# Altium schematic symbol library Mech-PCB.SchLib: 54 symbols
Pins are listed as number, name and electrical type; pins without a type are passive.

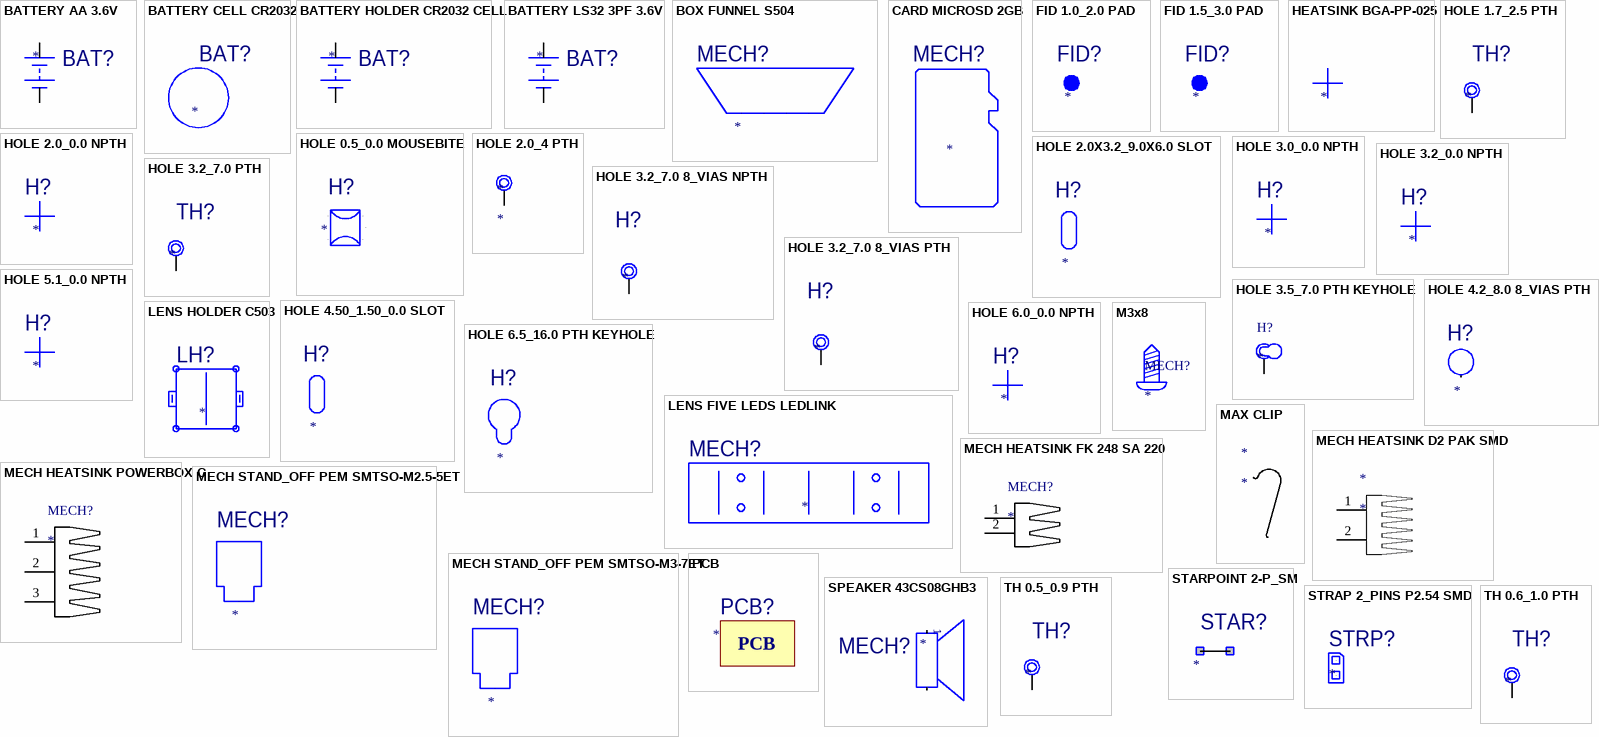
[diagram p0: symbols BATTERY AA 3.6V to TH 0.6_1.0 PTH]

## BATTERY AA 3.6V
designator BAT?
=Description
pins: 1, 2

## BATTERY CELL CR2032
designator BAT?
=Description

## BATTERY HOLDER CR2032 CELL
designator BAT?
=Description
pins: 1, 2

## BATTERY LS32 3PF 3.6V
designator BAT?
=Description
pins: 1, 2

## BOX FUNNEL S504
designator MECH?
=Description
pins: 1, 2, 3, 4

## CARD MICROSD 2GB
designator MECH?
=Description

## FID 1.0_2.0 PAD
designator FID?  (no BOM)
=Description

## FID 1.5_3.0 PAD
designator FID?  (no BOM)
=Description

## HEATSINK BGA-PP-025
designator ?
=Description

## HOLE 0.5_0.0 MOUSEBITE
designator H?
=Description
pins: 1, 2, 3, 4, 5, 6

## HOLE 1.7_2.5 PTH
designator TH?
=Description
pins: 1

## HOLE 2.0_0.0 NPTH
designator H?
=Description

## HOLE 2.0_4 PTH
designator *
pins: 1

## HOLE 2.0X3.2_9.0X6.0 SLOT
designator H?
=Description
pins: 1

## HOLE 3.0_0.0 NPTH
designator H?
=Description

## HOLE 3.2_0.0 NPTH
designator H?
=Description

## HOLE 3.2_7.0 8_VIAS NPTH
designator H?  (no BOM)
=Description
pins: 1

## HOLE 3.2_7.0 8_VIAS PTH
designator H?  (no BOM)
=Description
pins: 1

## HOLE 3.2_7.0 PTH
designator TH?  (no BOM)
=Description
pins: 1

## HOLE 3.5_7.0 PTH KEYHOLE
designator H?  (no BOM)
=Designator
pins: 1

## HOLE 4.2_8.0 8_VIAS PTH
designator H?
=Description
pins: 1

## HOLE 4.50_1.50_0.0 SLOT
designator H?
=Description
pins: 1

## HOLE 5.1_0.0 NPTH
designator H?
=Description

## HOLE 6.0_0.0 NPTH
designator H?
=Description

## HOLE 6.5_16.0 PTH KEYHOLE
designator H?
=Description
pins: 1, 2

## LENS FIVE LEDS LEDLINK
designator MECH?
=Description

## LENS HOLDER C503
designator LH?
=Description
pins: 1, 2

## M3x8
designator MECH?
=Description

## MAX CLIP
designator *
=Description

## MECH HEATSINK D2 PAK SMD
designator *
=Description
pins: 1, 2

## MECH HEATSINK FK 248 SA 220
designator MECH?
=Description
pins: 1, 2

## MECH HEATSINK POWERBOX C
designator MECH?
=Description
pins: 1, 2, 3

## MECH STAND_OFF PEM SMTSO-M2.5-5ET
designator MECH?
=Description
pins: 1

## MECH STAND_OFF PEM SMTSO-M3-7ET
designator MECH?
=Description
pins: 1

## PCB
designator PCB?  (mechanical)
=Description

## SPEAKER 43CS08GHB3
designator MECH?
=Description
pins: 1, 2

## STARPOINT 2-P_SM
designator STAR?
=Description
pins: 1, 2

## STRAP 2_PINS P2.54 SMD
designator STRP?
=Description
pins: 1, 2

## TH 0.5_0.9 PTH
designator TH?  (no BOM)
=Description
pins: 1

## TH 0.6_1.0 PTH
designator TH?  (no BOM)
=Description
pins: 1

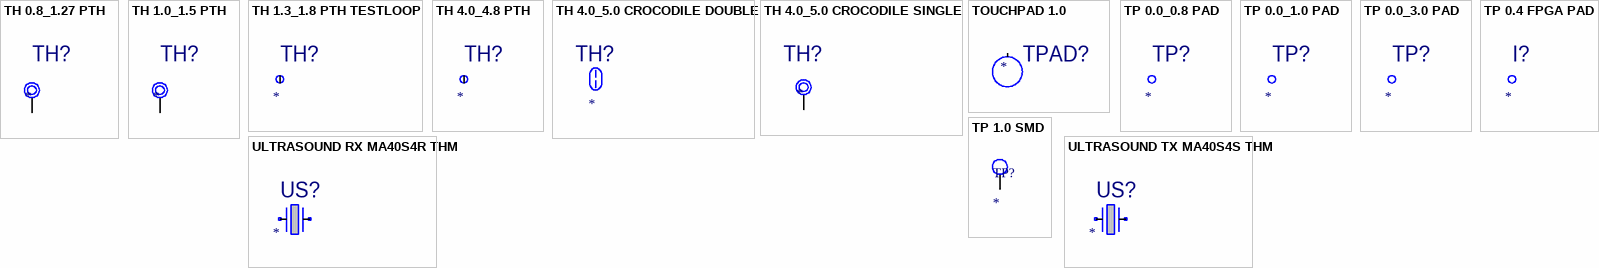
[diagram p1: symbols TH 0.8_1.27 PTH to ULTRASOUND TX MA40S4S THM]

## TH 0.8_1.27 PTH
designator TH?  (no BOM)
=Description
pins: 1

## TH 1.0_1.5 PTH
designator TH?  (no BOM)
=Description
pins: 1

## TH 1.3_1.8 PTH TESTLOOP
designator TH?
=Description
pins: 1

## TH 4.0_4.8 PTH
designator TH?
=Description
pins: 1

## TH 4.0_5.0 CROCODILE DOUBLE
designator TH?
=Description
pins: 1

## TH 4.0_5.0 CROCODILE SINGLE
designator TH?  (no BOM)
=Description
pins: 1

## TOUCHPAD 1.0
designator TPAD?
=Description
pins: 1

## TP 0.0_0.8 PAD
designator TP?
=Description
pins: 1

## TP 0.0_1.0 PAD
designator TP?
=Description
pins: 1

## TP 0.0_3.0 PAD
designator TP?
=Description
pins: 1

## TP 0.4 FPGA PAD
designator I?
=Description
pins: 1

## TP 1.0 SMD
designator TP?  (no BOM)
=Description
pins: 1

## ULTRASOUND RX MA40S4R THM
designator US?
=Description
pins: 1, 2

## ULTRASOUND TX MA40S4S THM
designator US?
=Description
pins: 1, 2